# EAGLE library part AD5142A (library Custom_Library)
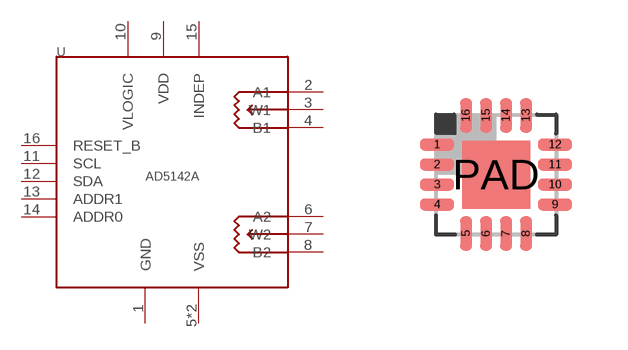
[diagram p10: symbol with the pads of QFN16; footprint QFN16]

Designator prefix U

## AD5142A  [QFN16]
1  GND
2  A1
3  W1
4  B1
5  VSS
6  A2
7  W2
8  B2
9  VDD
10  VLOGIC
11  SCL
12  SDA
13  ADDR1
14  ADDR0
15  INDEP
16  RESET_B
PAD  VSS

## Footprint QFN16 (pad centres in mm)
smd 0.85 x 0.3: 1 -1.357,0.71; 2 -1.357,0.21; 3 -1.357,-0.29; 4 -1.357,-0.79; 9 1.593,-0.79; 10 1.593,-0.29; 11 1.593,0.21; 12 1.593,0.71
smd 0.3 x 0.85: 5 -0.632,-1.515; 6 -0.133,-1.515; 7 0.367,-1.515; 8 0.868,-1.515; 13 0.868,1.435; 14 0.367,1.435; 15 -0.133,1.435; 16 -0.632,1.435
smd 1.7 x 1.7: PAD 0.117,-0.04